# Altium schematic symbol library Capital.SchLib: 28 symbols
Pins are listed as number, name and electrical type; pins without a type are passive.

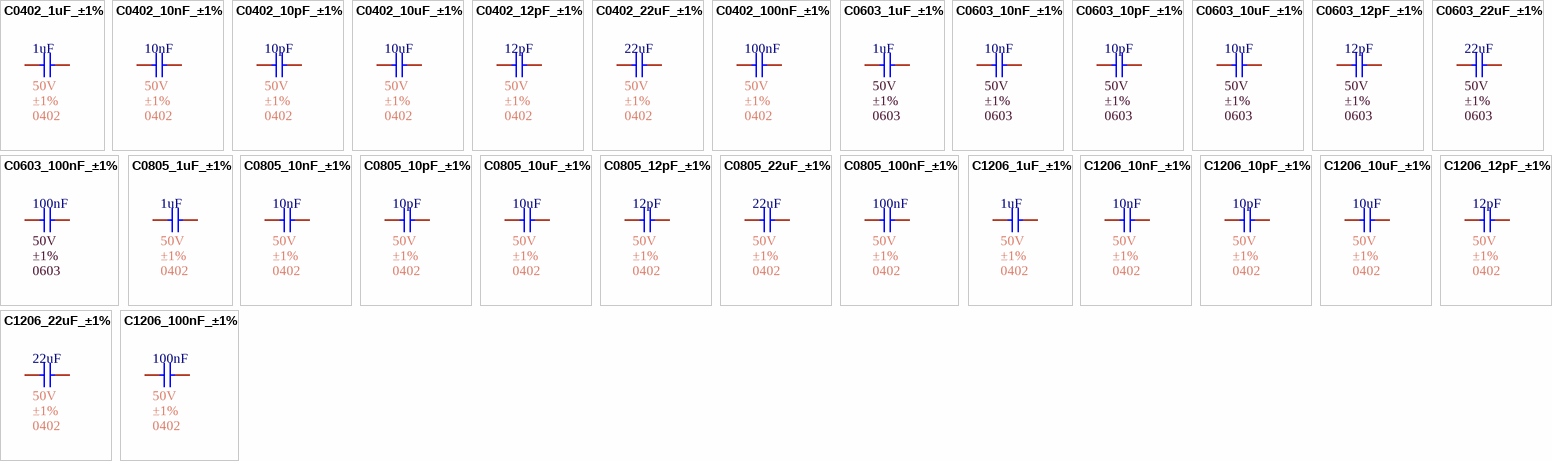
[diagram p0: symbols C0402_1uF_±1% to C1206_100nF_±1%]

## C0402_1uF_±1%
designator C?, comment 1uF  Tolerance: ±1%  Package: 0402  Voltage Rating: 50V
50V 10pF NP0 ±1% 0402 Multilayer Ceramic Capacitors MLCC - SMD/SMT ROHS; Manufacturer: YAGEO; Mfr. Part #: CC0402FRNPO9BN100; LCSC Part #: C513681; Link: https://www.lcsc.com/product-detail/C513681.html?s_z=n_capital%2520yageo%252010pF%25200402; Capacitance: 1uF
footprint C0402
pins: 1, 2

## C0402_10nF_±1%
designator C?, comment 10nF  Tolerance: ±1%  Package: 0402  Voltage Rating: 50V
50V 10pF NP0 ±1% 0402 Multilayer Ceramic Capacitors MLCC - SMD/SMT ROHS; Manufacturer: YAGEO; Mfr. Part #: CC0402FRNPO9BN100; LCSC Part #: C513681; Link: https://www.lcsc.com/product-detail/C513681.html?s_z=n_capital%2520yageo%252010pF%25200402; Capacitance: 10nF
footprint C0402
pins: 1, 2

## C0402_10pF_±1%
designator C?, comment 10pF  Tolerance: ±1%  Package: 0402  Voltage Rating: 50V
50V 10pF NP0 ±1% 0402 Multilayer Ceramic Capacitors MLCC - SMD/SMT ROHS; Manufacturer: YAGEO; Mfr. Part #: CC0402FRNPO9BN100; LCSC Part #: C513681; Link: https://www.lcsc.com/product-detail/C513681.html?s_z=n_capital%2520yageo%252010pF%25200402; Capacitance: 10pF
footprint C0402
pins: 1, 2

## C0402_10uF_±1%
designator C?, comment 10uF  Tolerance: ±1%  Package: 0402  Voltage Rating: 50V
50V 10pF NP0 ±1% 0402 Multilayer Ceramic Capacitors MLCC - SMD/SMT ROHS; Manufacturer: YAGEO; Mfr. Part #: CC0402FRNPO9BN100; LCSC Part #: C513681; Link: https://www.lcsc.com/product-detail/C513681.html?s_z=n_capital%2520yageo%252010pF%25200402; Capacitance: 10uF
footprint C0402
pins: 1, 2

## C0402_12pF_±1%
designator C?, comment 12pF  Tolerance: ±1%  Package: 0402  Voltage Rating: 50V
50V 10pF NP0 ±1% 0402 Multilayer Ceramic Capacitors MLCC - SMD/SMT ROHS; Manufacturer: YAGEO; Mfr. Part #: CC0402FRNPO9BN100; LCSC Part #: C513681; Link: https://www.lcsc.com/product-detail/C513681.html?s_z=n_capital%2520yageo%252010pF%25200402; Capacitance: 12pF
footprint C0402
pins: 1, 2

## C0402_22uF_±1%
designator C?, comment 22uF  Tolerance: ±1%  Package: 0402  Voltage Rating: 50V
50V 10pF NP0 ±1% 0402 Multilayer Ceramic Capacitors MLCC - SMD/SMT ROHS; Manufacturer: YAGEO; Mfr. Part #: CC0402FRNPO9BN100; LCSC Part #: C513681; Link: https://www.lcsc.com/product-detail/C513681.html?s_z=n_capital%2520yageo%252010pF%25200402; Capacitance: 22uF
footprint C0402
pins: 1, 2

## C0402_100nF_±1%
designator C?, comment 100nF  Tolerance: ±1%  Package: 0402  Voltage Rating: 50V
50V 10pF NP0 ±1% 0402 Multilayer Ceramic Capacitors MLCC - SMD/SMT ROHS; Manufacturer: YAGEO; Mfr. Part #: CC0402FRNPO9BN100; LCSC Part #: C513681; Link: https://www.lcsc.com/product-detail/C513681.html?s_z=n_capital%2520yageo%252010pF%25200402; Capacitance: 100nF
footprint C0402
pins: 1, 2

## C0603_1uF_±1%
designator C?, comment 1uF  Tolerance: ±1%  Package: 0603  Voltage Rating: 50V
50V 10pF NP0 ±1% 0402 Multilayer Ceramic Capacitors MLCC - SMD/SMT ROHS; Manufacturer: YAGEO; Mfr. Part #: CC0402FRNPO9BN100; LCSC Part #: C513681; Link: https://www.lcsc.com/product-detail/C513681.html?s_z=n_capital%2520yageo%252010pF%25200402; Capacitance: 1uF
footprint Model Name (Model Description)
footprint C0603
pins: 1, 2

## C0603_10nF_±1%
designator C?, comment 10nF  Tolerance: ±1%  Package: 0603  Voltage Rating: 50V
50V 10pF NP0 ±1% 0402 Multilayer Ceramic Capacitors MLCC - SMD/SMT ROHS; Manufacturer: YAGEO; Mfr. Part #: CC0402FRNPO9BN100; LCSC Part #: C513681; Link: https://www.lcsc.com/product-detail/C513681.html?s_z=n_capital%2520yageo%252010pF%25200402; Capacitance: 10nF
footprint C0603
pins: 1, 2

## C0603_10pF_±1%
designator C?, comment 10pF  Tolerance: ±1%  Package: 0603  Voltage Rating: 50V
50V 10pF NP0 ±1% 0402 Multilayer Ceramic Capacitors MLCC - SMD/SMT ROHS; Manufacturer: YAGEO; Mfr. Part #: CC0402FRNPO9BN100; LCSC Part #: C513681; Link: https://www.lcsc.com/product-detail/C513681.html?s_z=n_capital%2520yageo%252010pF%25200402; Capacitance: 10pF
footprint C0603
pins: 1, 2

## C0603_10uF_±1%
designator C?, comment 10uF  Tolerance: ±1%  Package: 0603  Voltage Rating: 50V
50V 10pF NP0 ±1% 0402 Multilayer Ceramic Capacitors MLCC - SMD/SMT ROHS; Manufacturer: YAGEO; Mfr. Part #: CC0402FRNPO9BN100; LCSC Part #: C513681; Link: https://www.lcsc.com/product-detail/C513681.html?s_z=n_capital%2520yageo%252010pF%25200402; Capacitance: 10uF
footprint C0603
pins: 1, 2

## C0603_12pF_±1%
designator C?, comment 12pF  Tolerance: ±1%  Package: 0603  Voltage Rating: 50V
50V 10pF NP0 ±1% 0402 Multilayer Ceramic Capacitors MLCC - SMD/SMT ROHS; Manufacturer: YAGEO; Mfr. Part #: CC0402FRNPO9BN100; LCSC Part #: C513681; Link: https://www.lcsc.com/product-detail/C513681.html?s_z=n_capital%2520yageo%252010pF%25200402; Capacitance: 12pF
footprint C0603
pins: 1, 2

## C0603_22uF_±1%
designator C?, comment 22uF  Tolerance: ±1%  Package: 0603  Voltage Rating: 50V
50V 10pF NP0 ±1% 0402 Multilayer Ceramic Capacitors MLCC - SMD/SMT ROHS; Manufacturer: YAGEO; Mfr. Part #: CC0402FRNPO9BN100; LCSC Part #: C513681; Link: https://www.lcsc.com/product-detail/C513681.html?s_z=n_capital%2520yageo%252010pF%25200402; Capacitance: 22uF
footprint C0603
pins: 1, 2

## C0603_100nF_±1%
designator C?, comment 100nF  Tolerance: ±1%  Package: 0603  Voltage Rating: 50V
50V 10pF NP0 ±1% 0402 Multilayer Ceramic Capacitors MLCC - SMD/SMT ROHS; Manufacturer: YAGEO; Mfr. Part #: CC0402FRNPO9BN100; LCSC Part #: C513681; Link: https://www.lcsc.com/product-detail/C513681.html?s_z=n_capital%2520yageo%252010pF%25200402; Capacitance: 100nF
footprint C0603
pins: 1, 2

## C0805_1uF_±1%
designator C?, comment 1uF  Tolerance: ±1%  Package: 0402  Voltage Rating: 50V
50V 10pF NP0 ±1% 0402 Multilayer Ceramic Capacitors MLCC - SMD/SMT ROHS; Manufacturer: YAGEO; Mfr. Part #: CC0402FRNPO9BN100; LCSC Part #: C513681; Link: https://www.lcsc.com/product-detail/C513681.html?s_z=n_capital%2520yageo%252010pF%25200402; Capacitance: 1uF
footprint C0805
pins: 1, 2

## C0805_10nF_±1%
designator C?, comment 10nF  Tolerance: ±1%  Package: 0402  Voltage Rating: 50V
50V 10pF NP0 ±1% 0402 Multilayer Ceramic Capacitors MLCC - SMD/SMT ROHS; Manufacturer: YAGEO; Mfr. Part #: CC0402FRNPO9BN100; LCSC Part #: C513681; Link: https://www.lcsc.com/product-detail/C513681.html?s_z=n_capital%2520yageo%252010pF%25200402; Capacitance: 10nF
footprint C0805
pins: 1, 2

## C0805_10pF_±1%
designator C?, comment 10pF  Tolerance: ±1%  Package: 0402  Voltage Rating: 50V
50V 10pF NP0 ±1% 0402 Multilayer Ceramic Capacitors MLCC - SMD/SMT ROHS; Manufacturer: YAGEO; Mfr. Part #: CC0402FRNPO9BN100; LCSC Part #: C513681; Link: https://www.lcsc.com/product-detail/C513681.html?s_z=n_capital%2520yageo%252010pF%25200402; Capacitance: 10pF
footprint C0805
pins: 1, 2

## C0805_10uF_±1%
designator C?, comment 10uF  Tolerance: ±1%  Package: 0402  Voltage Rating: 50V
50V 10pF NP0 ±1% 0402 Multilayer Ceramic Capacitors MLCC - SMD/SMT ROHS; Manufacturer: YAGEO; Mfr. Part #: CC0402FRNPO9BN100; LCSC Part #: C513681; Link: https://www.lcsc.com/product-detail/C513681.html?s_z=n_capital%2520yageo%252010pF%25200402; Capacitance: 10uF
footprint C0805
pins: 1, 2

## C0805_12pF_±1%
designator C?, comment 12pF  Tolerance: ±1%  Package: 0402  Voltage Rating: 50V
50V 10pF NP0 ±1% 0402 Multilayer Ceramic Capacitors MLCC - SMD/SMT ROHS; Manufacturer: YAGEO; Mfr. Part #: CC0402FRNPO9BN100; LCSC Part #: C513681; Link: https://www.lcsc.com/product-detail/C513681.html?s_z=n_capital%2520yageo%252010pF%25200402; Capacitance: 12pF
footprint C0805
pins: 1, 2

## C0805_22uF_±1%
designator C?, comment 22uF  Tolerance: ±1%  Package: 0402  Voltage Rating: 50V
50V 10pF NP0 ±1% 0402 Multilayer Ceramic Capacitors MLCC - SMD/SMT ROHS; Manufacturer: YAGEO; Mfr. Part #: CC0402FRNPO9BN100; LCSC Part #: C513681; Link: https://www.lcsc.com/product-detail/C513681.html?s_z=n_capital%2520yageo%252010pF%25200402; Capacitance: 22uF
footprint C0805
pins: 1, 2

## C0805_100nF_±1%
designator C?, comment 100nF  Tolerance: ±1%  Package: 0402  Voltage Rating: 50V
50V 10pF NP0 ±1% 0402 Multilayer Ceramic Capacitors MLCC - SMD/SMT ROHS; Manufacturer: YAGEO; Mfr. Part #: CC0402FRNPO9BN100; LCSC Part #: C513681; Link: https://www.lcsc.com/product-detail/C513681.html?s_z=n_capital%2520yageo%252010pF%25200402; Capacitance: 100nF
footprint C0805
pins: 1, 2

## C1206_1uF_±1%
designator C?, comment 1uF  Tolerance: ±1%  Package: 0402  Voltage Rating: 50V
50V 10pF NP0 ±1% 0402 Multilayer Ceramic Capacitors MLCC - SMD/SMT ROHS; Manufacturer: YAGEO; Mfr. Part #: CC0402FRNPO9BN100; LCSC Part #: C513681; Link: https://www.lcsc.com/product-detail/C513681.html?s_z=n_capital%2520yageo%252010pF%25200402; Capacitance: 1uF
footprint C1206
pins: 1, 2

## C1206_10nF_±1%
designator C?, comment 10nF  Tolerance: ±1%  Package: 0402  Voltage Rating: 50V
50V 10pF NP0 ±1% 0402 Multilayer Ceramic Capacitors MLCC - SMD/SMT ROHS; Manufacturer: YAGEO; Mfr. Part #: CC0402FRNPO9BN100; LCSC Part #: C513681; Link: https://www.lcsc.com/product-detail/C513681.html?s_z=n_capital%2520yageo%252010pF%25200402; Capacitance: 10nF
footprint C1206
pins: 1, 2

## C1206_10pF_±1%
designator C?, comment 10pF  Tolerance: ±1%  Package: 0402  Voltage Rating: 50V
50V 10pF NP0 ±1% 0402 Multilayer Ceramic Capacitors MLCC - SMD/SMT ROHS; Manufacturer: YAGEO; Mfr. Part #: CC0402FRNPO9BN100; LCSC Part #: C513681; Link: https://www.lcsc.com/product-detail/C513681.html?s_z=n_capital%2520yageo%252010pF%25200402; Capacitance: 10pF
footprint C1206
pins: 1, 2

## C1206_10uF_±1%
designator C?, comment 10uF  Tolerance: ±1%  Package: 0402  Voltage Rating: 50V
50V 10pF NP0 ±1% 0402 Multilayer Ceramic Capacitors MLCC - SMD/SMT ROHS; Manufacturer: YAGEO; Mfr. Part #: CC0402FRNPO9BN100; LCSC Part #: C513681; Link: https://www.lcsc.com/product-detail/C513681.html?s_z=n_capital%2520yageo%252010pF%25200402; Capacitance: 10uF
footprint C1206
pins: 1, 2

## C1206_12pF_±1%
designator C?, comment 12pF  Tolerance: ±1%  Package: 0402  Voltage Rating: 50V
50V 10pF NP0 ±1% 0402 Multilayer Ceramic Capacitors MLCC - SMD/SMT ROHS; Manufacturer: YAGEO; Mfr. Part #: CC0402FRNPO9BN100; LCSC Part #: C513681; Link: https://www.lcsc.com/product-detail/C513681.html?s_z=n_capital%2520yageo%252010pF%25200402; Capacitance: 12pF
footprint C1206
pins: 1, 2

## C1206_22uF_±1%
designator C?, comment 22uF  Tolerance: ±1%  Package: 0402  Voltage Rating: 50V
50V 10pF NP0 ±1% 0402 Multilayer Ceramic Capacitors MLCC - SMD/SMT ROHS; Manufacturer: YAGEO; Mfr. Part #: CC0402FRNPO9BN100; LCSC Part #: C513681; Link: https://www.lcsc.com/product-detail/C513681.html?s_z=n_capital%2520yageo%252010pF%25200402; Capacitance: 22uF
footprint C1206
pins: 1, 2

## C1206_100nF_±1%
designator C?, comment 100nF  Tolerance: ±1%  Package: 0402  Voltage Rating: 50V
50V 10pF NP0 ±1% 0402 Multilayer Ceramic Capacitors MLCC - SMD/SMT ROHS; Manufacturer: YAGEO; Mfr. Part #: CC0402FRNPO9BN100; LCSC Part #: C513681; Link: https://www.lcsc.com/product-detail/C513681.html?s_z=n_capital%2520yageo%252010pF%25200402; Capacitance: 100nF
footprint C1206
pins: 1, 2